# Altium schematic symbol library Altium-INDUC.SchLib: 29 symbols
Pins are listed as number, name and electrical type; pins without a type are passive.

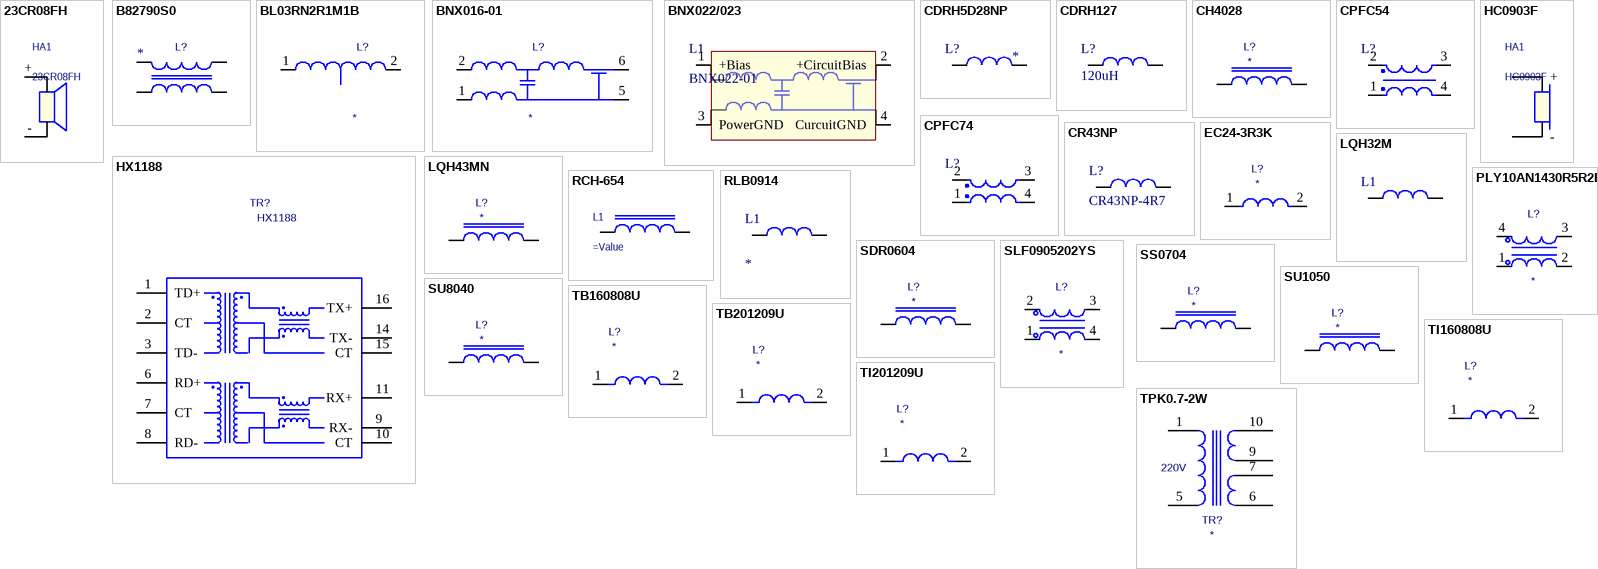
[diagram p0: symbols 23CR08FH to TPK0.7-2W]

## 23CR08FH
designator HA1
Audio speaker d=23mm
footprint 23CR08FH (Audio speaker d=23mm)
pins: + IN+, - IN-

## B82790S0
designator L?
Common Mode EMI Filters; Value: *
footprint B82790
pins: 1, 2, 3, 4

## BL03RN2R1M1B
designator L?
On-Board Type (DC) EMI Suppression Filters, Ferrite beads; Value: *
footprint BL03RN2R1M1B
pins: 1, 2

## BNX016-01
designator L?
On-Board Type (DC)  EMI Suppression Filters; Value: *
footprint BNX016-01
pins: 1, 2, 3, 4, 5, 6

## BNX022/023
designator L1, comment BNX022-01
SMD Noise Supressor muRata; Value: BNX022-01
footprint BNX022/023/024/025 (SMD Noise Supressor)
pins: 1 +Bias, 2 +CircuitBias, 3 PowerGND, 4 CurcuitGND

## CDRH5D28NP
designator L?
Дроссель - Ток: 1.1 А; Допуск: ±30%; Корпус: SMD 6x6x3mm;; Value: *
footprint CDRH5D28
pins: 1, 2

## CDRH127
designator L?  Comment_1: 120uH  (hidden comment: CDRH127)
POWER INDUCTORS, 12,3х12,3x8,0, +/-20%, 1.9A
footprint CDRH127
pins: 1, 2

## CH4028
designator L?
Shielded Smd Power Inductor; Value: *
footprint SH4028 (SHIELDED SMD  POWER INDUCTOR)
pins: 1, 2

## CPFC54
designator L?  (value not drawn)
DC COMMON MODE CHOKE COIL
footprint CPFC54
pins: 1, 2, 3, 4

## CPFC74
designator L?  (value not drawn)
DC COMMON MODE CHOKE COIL
footprint CPFC74
pins: 1, 2, 3, 4

## CR43NP
designator L?, comment CR43NP-4R7
SMD power inductor
footprint CR43 (SMD POWER INDUCTOR)
pins: 1, 2

## EC24-3R3K
designator L?
Inductor; Value: *
footprint EC24
pins: 1, 2

## HC0903F
designator HA1
Electro-Magnetic Sound Generator
footprint HC09F Horiz (Electro-Magnetic Sound Generator)
footprint HC09F Vert (Electro-Magnetic Sound Generator)
pins: 1 +, 2 -

## HX1188
designator TR?
10/100BASE-T SINGLE PORT  SURFACE MOUNT MAGNETICS; Value: *
footprint HX1188
pins: 1 TD+, 2 CT, 3 TD-, 4 hidden, 5 hidden, 6 RD+, 7 CT, 8 RD-, 9 RX-, 10 CT, 11 RX+, 12 hidden, 13 hidden, 14 TX-, 15 CT, 16 TX+

## LQH32M
designator L1  (value not drawn)
Chip inductors LQH32M series
footprint C-3225[1210]
pins: 1, 2

## LQH43MN
designator L?
Inductor; Value: *
footprint L-LQH43MN-4532[1812]
pins: 1, 2

## PLY10AN1430R5R2B
designator L?
Common Mode EMI Filters; Value: *
footprint PLY10_FILTER
pins: 1, 2, 3, 4

## RCH-654
designator L1
DIP Power Inductor
footprint RCH-654 (DIP power inductor)
pins: 1, 2

## RLB0914
designator L1  (value not drawn)
DIP Power inductor; Value: *
footprint RLB0914 (dip radial inductor)
pins: 1, 2

## SDR0604
designator L?
Smd Power Inductor; Value: *
footprint SDR0604
pins: 1, 2

## SLF0905202YS
designator L?
Common Mode EMI Filters; Value: *
footprint SLF0905
pins: 1, 2, 3, 4

## SS0704
designator L?
Shielded Smd Power Inductor; Value: *
footprint SS0704
pins: 1, 2

## SU1050
designator L?
Shielded Smd Power Inductor; Value: *
footprint SU1050
pins: 1, 2

## SU8040
designator L?
Shielded Smd Power Inductor; Value: *
footprint SU8040
pins: 1, 2

## TB160808U
designator L?
Ferrite choke; Value: *
footprint L-1608[0603]
pins: 1, 2

## TB201209U
designator L?
Ferrite choke; Value: *
footprint L-2012[0805]
pins: 1, 2

## TI160808U
designator L?
Ferrite choke (High current); Value: *
footprint L-1608[0603]
pins: 1, 2

## TI201209U
designator L?
Ferrite choke (High current); Value: *
footprint L-2012[0805]
pins: 1, 2

## TPK0.7-2W
designator TR?
Power Transformer from 220V; Value: *
footprint TPK0.7-2W
pins: 1, 5, 6, 7, 9, 10
text: 220V